# Altium schematic symbol library DF13-10P-1.25H(21).SchLib: 1 symbol
Pins are listed as number, name and electrical type; pins without a type are passive.

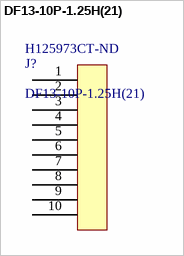
[diagram p0: symbol DF13-10P-1.25H(21)]

## DF13-10P-1.25H(21)
designator J?  Supplier Part Number 1: H125973CT-ND
10 pos DF13 right angle surface mount connector; Supplier 1: Digi-Key
footprint DF13-10P-1.25H(21) (10 pos, 1.25mm pitch DF13 connector (H125973CT-ND))
pins: 1, 2, 3, 4, 5, 6, 7, 8, 9, 10